# Altium footprint library Package_TO_SOT_THT.PcbLib: 236 footprints (part 14 of 15)
Each footprint in its own frame and in the unit in brackets; x right, y up, seen from the top. Pads: shape width x height; smd on the part's side, far side on the other; paste and mask are expansions set on the pad; w line width, h text height; cw(c..) or ccw(c..) is an arc to the next point about the centre after c.
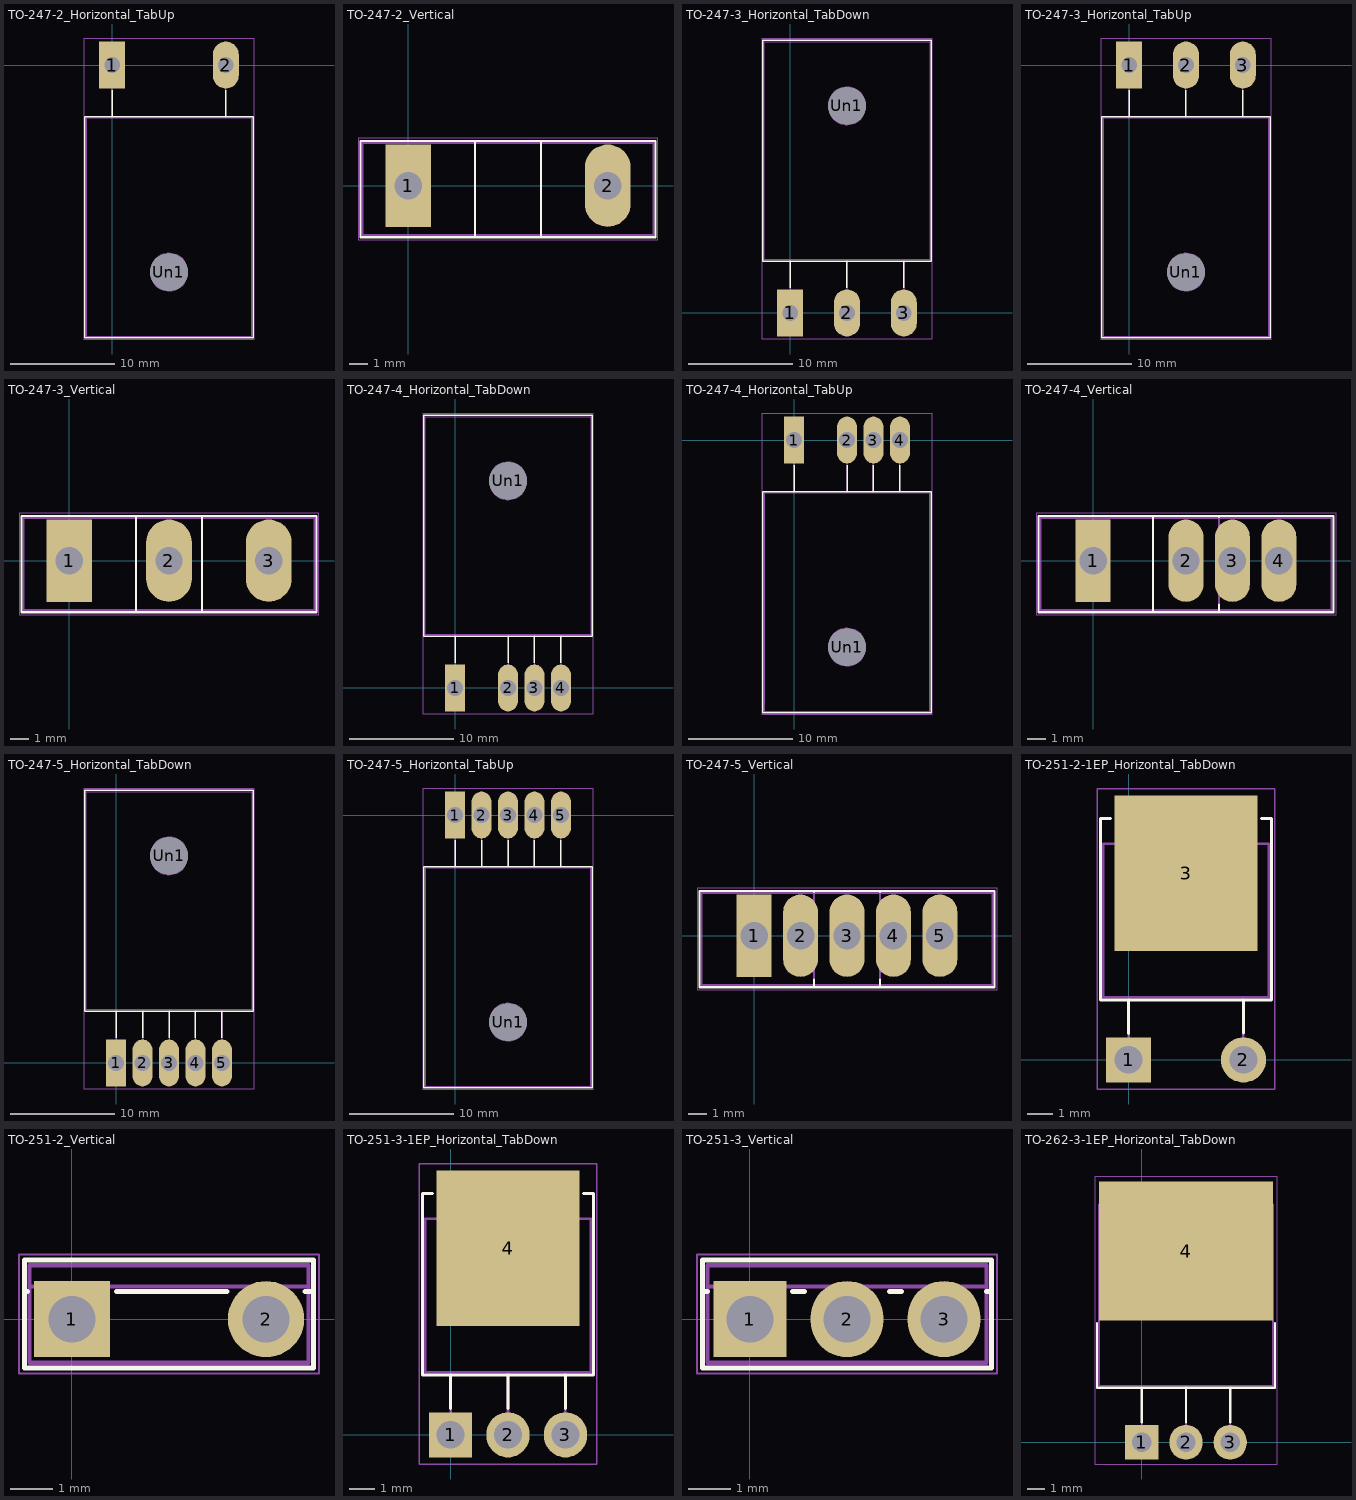
[diagram p13: the footprints below, top view; thin cyan lines are the x and y axes]

## TO-247-2_Horizontal_TabUp [mm]
pads (3):
  rect 2.5x4.5 hole 1.5: 1(0,0)
  rrect100% 2.5x4.5 hole 1.5: 2(10.9,0)
  rrect100% 3.6x3.6 hole 3.6: Un1(5.45,-19.86)
F.SilkS:
  lines w0.12: 0,-4.96 0,-2.4 ; 10.9,-4.96 10.9,-2.4 ; -2.62,-26.15 -2.62,-4.96 13.52,-4.96 13.52,-26.15 -2.62,-26.15
F.CrtYd:
  lines w0.05: -2.75,-26.28 13.65,-26.28 13.65,2.5 -2.75,2.5 -2.75,-26.28
F.Fab:
  circle w0.1: c5.45,-19.86 r1.805
  lines w0.1: 0,-5.08 0,0 ; 10.9,-5.08 10.9,0 ; -2.5,-26.03 13.4,-26.03 13.4,-5.08 -2.5,-5.08 -2.5,-26.03
  text "'.Designator'" at 1.403,-27.99 h1

## TO-247-2_Vertical [mm]
pads (2):
  rect 2.5x4.5 hole 1.5: 1(0,0)
  rrect100% 2.5x4.5 hole 1.5: 2(10.9,0)
F.SilkS:
  lines w0.12: 3.646,-2.82 3.646,2.451 ; 7.255,-2.82 7.255,2.451 ; -2.62,-2.82 13.52,-2.82 13.52,2.451 -2.62,2.451 -2.62,-2.82
F.CrtYd:
  lines w0.05: -2.75,-2.95 13.65,-2.95 13.65,2.59 -2.75,2.59 -2.75,-2.95
F.Fab:
  lines w0.1: 3.645,-2.7 3.645,2.33 ; 7.255,-2.7 7.255,2.33 ; -2.5,-2.7 13.4,-2.7 13.4,2.33 -2.5,2.33 -2.5,-2.7
  text "'.Designator'" at 1.403,2.61 h1

## TO-247-3_Horizontal_TabDown [mm]
pads (4):
  rect 2.5x4.5 hole 1.5: 1(0,0)
  rrect100% 2.5x4.5 hole 1.5: 2(5.45,0) 3(10.9,0)
  rrect100% 3.6x3.6 hole 3.6: Un1(5.45,19.86)
F.SilkS:
  lines w0.12: 0,2.4 0,4.96 ; 5.45,2.4 5.45,4.96 ; 10.9,2.4 10.9,4.96 ; -2.62,4.96 13.52,4.96 13.52,26.15 -2.62,26.15 -2.62,4.96
F.CrtYd:
  lines w0.05: -2.75,-2.5 -2.75,26.28 13.65,26.28 13.65,-2.5 -2.75,-2.5
F.Fab:
  circle w0.1: c5.45,19.86 r1.805
  lines w0.1: 0,0 0,5.08 ; 5.45,0 5.45,5.08 ; 10.9,0 10.9,5.08 ; -2.5,5.08 13.4,5.08 13.4,26.03 -2.5,26.03 -2.5,5.08
  text "'.Designator'" at 1.403,26.31 h1

## TO-247-3_Horizontal_TabUp [mm]
pads (4):
  rect 2.5x4.5 hole 1.5: 1(0,0)
  rrect100% 2.5x4.5 hole 1.5: 2(5.45,0) 3(10.9,0)
  rrect100% 3.6x3.6 hole 3.6: Un1(5.45,-19.86)
F.SilkS:
  lines w0.12: 0,-4.96 0,-2.4 ; 5.45,-4.96 5.45,-2.4 ; 10.9,-4.96 10.9,-2.4 ; -2.62,-26.15 13.52,-26.15 13.52,-4.96 -2.62,-4.96 -2.62,-26.15
F.CrtYd:
  lines w0.05: -2.75,-26.28 13.65,-26.28 13.65,2.5 -2.75,2.5 -2.75,-26.28
F.Fab:
  circle w0.1: c5.45,-19.86 r1.805
  lines w0.1: 0,-5.08 0,0 ; 5.45,-5.08 5.45,0 ; 10.9,-5.08 10.9,0 ; -2.5,-26.03 -2.5,-5.08 13.4,-5.08 13.4,-26.03 -2.5,-26.03
  text "'.Designator'" at 1.403,-27.99 h1

## TO-247-3_Vertical [mm]
pads (3):
  rect 2.5x4.5 hole 1.5: 1(0,0)
  rrect100% 2.5x4.5 hole 1.5: 2(5.45,0) 3(10.9,0)
F.SilkS:
  lines w0.12: 3.646,-2.82 3.646,2.451 ; 7.255,-2.82 7.255,2.451 ; -2.62,-2.82 13.52,-2.82 13.52,2.451 -2.62,2.451 -2.62,-2.82
F.CrtYd:
  lines w0.05: -2.75,-2.95 13.65,-2.95 13.65,2.59 -2.75,2.59 -2.75,-2.95
F.Fab:
  lines w0.1: 3.645,-2.7 3.645,2.33 ; 7.255,-2.7 7.255,2.33 ; -2.5,-2.7 -2.5,2.33 13.4,2.33 13.4,-2.7 -2.5,-2.7
  text "'.Designator'" at 1.403,2.61 h1

## TO-247-4_Horizontal_TabDown [mm]
pads (5):
  rect 1.905x4.5 hole 1.5: 1(0,0)
  rrect100% 1.905x4.5 hole 1.5: 2(5.08,0) 3(7.62,0) 4(10.16,0)
  rrect100% 3.6x3.6 hole 3.6: Un1(5.08,19.86)
F.SilkS:
  lines w0.12: 0,2.4 0,4.96 ; 5.08,2.4 5.08,4.96 ; 7.62,2.4 7.62,4.96 ; 10.16,2.4 10.16,4.96 ; -2.99,4.96 13.15,4.96 13.15,26.15 -2.99,26.15 -2.99,4.96
F.CrtYd:
  lines w0.05: -3.12,-2.5 13.28,-2.5 13.28,26.28 -3.12,26.28 -3.12,-2.5
F.Fab:
  circle w0.1: c5.08,19.86 r1.805
  lines w0.1: 0,0 0,5.08 ; 5.08,0 5.08,5.08 ; 7.62,0 7.62,5.08 ; 10.16,0 10.16,5.08 ; -2.87,5.08 -2.87,26.03 13.03,26.03 13.03,5.08 -2.87,5.08
  text "'.Designator'" at 1.033,26.31 h1

## TO-247-4_Horizontal_TabUp [mm]
pads (5):
  rect 1.905x4.5 hole 1.5: 1(0,0)
  rrect100% 1.905x4.5 hole 1.5: 2(5.08,0) 3(7.62,0) 4(10.16,0)
  rrect100% 3.6x3.6 hole 3.6: Un1(5.08,-19.86)
F.SilkS:
  lines w0.12: 0,-4.96 0,-2.4 ; 5.08,-4.96 5.08,-2.4 ; 7.62,-4.96 7.62,-2.4 ; 10.16,-4.96 10.16,-2.4 ; -2.99,-26.15 13.15,-26.15 13.15,-4.96 -2.99,-4.96 -2.99,-26.15
F.CrtYd:
  lines w0.05: -3.12,-26.28 13.28,-26.28 13.28,2.5 -3.12,2.5 -3.12,-26.28
F.Fab:
  circle w0.1: c5.08,-19.86 r1.805
  lines w0.1: 0,-5.08 0,0 ; 5.08,-5.08 5.08,0 ; 7.62,-5.08 7.62,0 ; 10.16,-5.08 10.16,0 ; -2.87,-26.03 13.03,-26.03 13.03,-5.08 -2.87,-5.08 -2.87,-26.03
  text "'.Designator'" at 1.033,-27.99 h1

## TO-247-4_Vertical [mm]
pads (4):
  rect 1.905x4.5 hole 1.5: 1(0,0)
  rrect100% 1.905x4.5 hole 1.5: 2(5.08,0) 3(7.62,0) 4(10.16,0)
F.SilkS:
  lines w0.12: 3.276,-2.82 3.276,2.451 ; 6.885,-2.82 6.885,-2.4 ; 6.885,2.4 6.885,2.451 ; -2.99,-2.82 -2.99,2.451 13.15,2.451 13.15,-2.82 -2.99,-2.82
F.CrtYd:
  lines w0.05: -3.12,-2.95 13.28,-2.95 13.28,2.59 -3.12,2.59 -3.12,-2.95
F.Fab:
  lines w0.1: 3.275,-2.7 3.275,2.33 ; 6.885,-2.7 6.885,2.33 ; -2.87,-2.7 -2.87,2.33 13.03,2.33 13.03,-2.7 -2.87,-2.7
  text "'.Designator'" at 1.033,2.61 h1

## TO-247-5_Horizontal_TabDown [mm]
pads (6):
  rect 1.905x4.5 hole 1.5: 1(0,0)
  rrect100% 1.905x4.5 hole 1.5: 2(2.54,0) 3(5.08,0) 4(7.62,0) 5(10.16,0)
  rrect100% 3.6x3.6 hole 3.6: Un1(5.08,19.86)
F.SilkS:
  lines w0.12: 0,2.4 0,4.96 ; 2.54,2.4 2.54,4.96 ; 5.08,2.4 5.08,4.96 ; 7.62,2.4 7.62,4.96 ; 10.16,2.4 10.16,4.96 ; -2.99,4.96 -2.99,26.15 13.15,26.15 13.15,4.96 -2.99,4.96
F.CrtYd:
  lines w0.05: -3.12,-2.5 13.28,-2.5 13.28,26.28 -3.12,26.28 -3.12,-2.5
F.Fab:
  circle w0.1: c5.08,19.86 r1.805
  lines w0.1: 0,0 0,5.08 ; 2.54,0 2.54,5.08 ; 5.08,0 5.08,5.08 ; 7.62,0 7.62,5.08 ; 10.16,0 10.16,5.08 ; -2.87,5.08 13.03,5.08 13.03,26.03 -2.87,26.03 -2.87,5.08
  text "'.Designator'" at 1.033,26.31 h1

## TO-247-5_Horizontal_TabUp [mm]
pads (6):
  rect 1.905x4.5 hole 1.5: 1(0,0)
  rrect100% 1.905x4.5 hole 1.5: 2(2.54,0) 3(5.08,0) 4(7.62,0) 5(10.16,0)
  rrect100% 3.6x3.6 hole 3.6: Un1(5.08,-19.86)
F.SilkS:
  lines w0.12: 0,-4.96 0,-2.4 ; 2.54,-4.96 2.54,-2.4 ; 5.08,-4.96 5.08,-2.4 ; 7.62,-4.96 7.62,-2.4 ; 10.16,-4.96 10.16,-2.4 ; -2.99,-26.15 13.15,-26.15 13.15,-4.96 -2.99,-4.96 -2.99,-26.15
F.CrtYd:
  lines w0.05: -3.12,-26.28 -3.12,2.5 13.28,2.5 13.28,-26.28 -3.12,-26.28
F.Fab:
  circle w0.1: c5.08,-19.86 r1.805
  lines w0.1: 0,-5.08 0,0 ; 2.54,-5.08 2.54,0 ; 5.08,-5.08 5.08,0 ; 7.62,-5.08 7.62,0 ; 10.16,-5.08 10.16,0 ; -2.87,-26.03 -2.87,-5.08 13.03,-5.08 13.03,-26.03 -2.87,-26.03
  text "'.Designator'" at 1.033,-27.99 h1

## TO-247-5_Vertical [mm]
pads (5):
  rect 1.905x4.5 hole 1.5: 1(0,0)
  rrect100% 1.905x4.5 hole 1.5: 2(2.54,0) 3(5.08,0) 4(7.62,0) 5(10.16,0)
F.SilkS:
  lines w0.12: 3.276,-2.82 3.276,-2.4 ; 3.276,2.4 3.276,2.451 ; 6.885,-2.82 6.885,-2.4 ; 6.885,2.4 6.885,2.451 ; -2.99,-2.82 -2.99,2.451 13.15,2.451 13.15,-2.82 -2.99,-2.82
F.CrtYd:
  lines w0.05: -3.12,-2.95 -3.12,2.59 13.28,2.59 13.28,-2.95 -3.12,-2.95
F.Fab:
  lines w0.1: 3.275,-2.7 3.275,2.33 ; 6.885,-2.7 6.885,2.33 ; -2.87,-2.7 -2.87,2.33 13.03,2.33 13.03,-2.7 -2.87,-2.7
  text "'.Designator'" at 1.033,2.61 h1

## TO-251-2-1EP_Horizontal_TabDown [mm]
pads (3):
  rect 1.8x1.8 hole 1.1: 1(0,0)
  rrect100% 1.8x1.8 hole 1.1: 2(4.58,0)
  rect 5.7x6.2 smd: 3(2.29,7.433)
F.SilkS:
  lines w0.12: -0.711,9.62 -1.12,9.62 -1.12,2.38 5.7,2.38 5.7,9.62 5.291,9.62 ; 0,1.05 0,2.38 ; 4.58,1.066 4.58,2.38
F.CrtYd:
  lines w0.05: -1.25,-1.16 -1.25,10.79 5.83,10.79 5.83,-1.16 -1.25,-1.16
F.Fab:
  lines w0.1: 0,0 0,2.5 ; 4.58,0 4.58,2.5 ; -1,2.5 5.58,2.5 5.58,8.6 -1,8.6 -1,2.5 ; -0.38,8.6 -0.38,9.5 4.96,9.5 4.96,8.6 -0.38,8.6
  text "'.Designator'" at -1.757,10.813 h1

## TO-251-2_Vertical [mm]
pads (2):
  rect 1.8x1.8 hole 1.1: 1(0,0)
  rrect100% 1.8x1.8 hole 1.1: 2(4.58,0)
F.SilkS:
  lines w0.12: -1.12,0.651 -1.05,0.651 ; 1.05,0.651 3.656,0.651 ; 5.505,0.651 5.7,0.651 ; -1.12,-1.15 -1.12,1.39 5.7,1.39 5.7,-1.15 -1.12,-1.15
F.CrtYd:
  lines w0.05: -1.25,-1.28 -1.25,1.52 5.83,1.52 5.83,-1.28 -1.25,-1.28
F.Fab:
  lines w0.1: -1,0.77 5.58,0.77 ; -1,-1.03 -1,1.27 5.58,1.27 5.58,-1.03 -1,-1.03
  text "'.Designator'" at -1.757,1.55 h1

## TO-251-3-1EP_Horizontal_TabDown [mm]
pads (4):
  rect 1.717x1.8 hole 1.1: 1(0,0)
  rrect100% 1.717x1.8 hole 1.1: 2(2.29,0) 3(4.58,0)
  rect 5.7x6.2 smd: 4(2.29,7.433)
F.SilkS:
  lines w0.12: -0.711,9.62 -1.12,9.62 -1.12,2.38 5.7,2.38 5.7,9.62 5.291,9.62 ; 0,1.05 0,2.38 ; 2.29,1.05 2.29,2.38 ; 4.58,1.05 4.58,2.38
F.CrtYd:
  lines w0.05: -1.25,-1.16 -1.25,10.79 5.83,10.79 5.83,-1.16 -1.25,-1.16
F.Fab:
  lines w0.1: 0,0 0,2.5 ; 2.29,0 2.29,2.5 ; 4.58,0 4.58,2.5 ; -1,2.5 5.58,2.5 5.58,8.6 -1,8.6 -1,2.5 ; -0.38,8.6 4.96,8.6 4.96,9.5 -0.38,9.5 -0.38,8.6
  text "'.Designator'" at -1.757,10.813 h1

## TO-251-3_Vertical [mm]
pads (3):
  rect 1.717x1.8 hole 1.1: 1(0,0)
  rrect100% 1.717x1.8 hole 1.1: 2(2.29,0) 3(4.58,0)
F.SilkS:
  lines w0.12: -1.12,0.651 -1.009,0.651 ; 1.009,0.651 1.282,0.651 ; 3.299,0.651 3.572,0.651 ; 5.589,0.651 5.7,0.651 ; -1.12,-1.15 -1.12,1.39 5.7,1.39 5.7,-1.15 -1.12,-1.15
F.CrtYd:
  lines w0.05: -1.25,-1.28 5.83,-1.28 5.83,1.52 -1.25,1.52 -1.25,-1.28
F.Fab:
  lines w0.1: -1,0.77 5.58,0.77 ; -1,-1.03 -1,1.27 5.58,1.27 5.58,-1.03 -1,-1.03
  text "'.Designator'" at -1.757,1.55 h1

## TO-262-3-1EP_Horizontal_TabDown [mm]
pads (4):
  rect 1.905x2 hole 1.1: 1(0,0)
  rrect100% 1.905x2 hole 1.1: 2(2.54,0) 3(5.08,0)
  rect 10x8 smd: 4(2.54,10.983)
F.SilkS:
  lines w0.12: -2.58,6.834 -2.58,3.13 7.66,3.13 7.66,6.834 ; 0,1.15 0,3.13 ; 2.54,1.15 2.54,3.13 ; 5.08,1.15 5.08,3.13
F.CrtYd:
  lines w0.05: -2.71,-1.25 -2.71,15.24 7.79,15.24 7.79,-1.25 -2.71,-1.25
F.Fab:
  lines w0.1: 0,0 0,3.25 ; 2.54,0 2.54,3.25 ; 5.08,0 5.08,3.25 ; -2.46,12.45 -2.46,13.65 7.54,13.65 7.54,12.45 ; -2.46,12.45 7.54,12.45 ; -2.46,12.45 -2.46,3.25 7.54,3.25 7.54,12.45 ; -2.46,12.45 7.54,12.45
  text "'.Designator'" at -1.507,15.263 h1